# Altium schematic symbol library Type-C-D-231__KLS1-5463.SchLib: 1 symbol
Pins are listed as number, name and electrical type; pins without a type are passive.

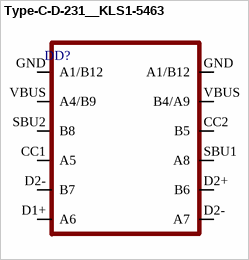
[diagram p0: symbol Type-C-D-231__KLS1-5463]

## Type-C-D-231__KLS1-5463
designator DD?
footprint Type-C-D-231__KLS1-5463
pins: CC1 A5, CC2 B5, D1+ A6, D2+ B6, D2- B7, D2- A7, GND A1/B12, GND A1/B12, SBU1 A8, SBU2 B8, VBUS A4/B9, VBUS B4/A9